# Altium footprint library PCB_Passive.PcbLib: 45 footprints (part 2 of 3)
Each footprint in its own frame and in the unit in brackets; x right, y up, seen from the top. Pads: shape width x height; smd on the part's side, far side on the other; paste and mask are expansions set on the pad; w line width, h text height; cw(c..) or ccw(c..) is an arc to the next point about the centre after c.
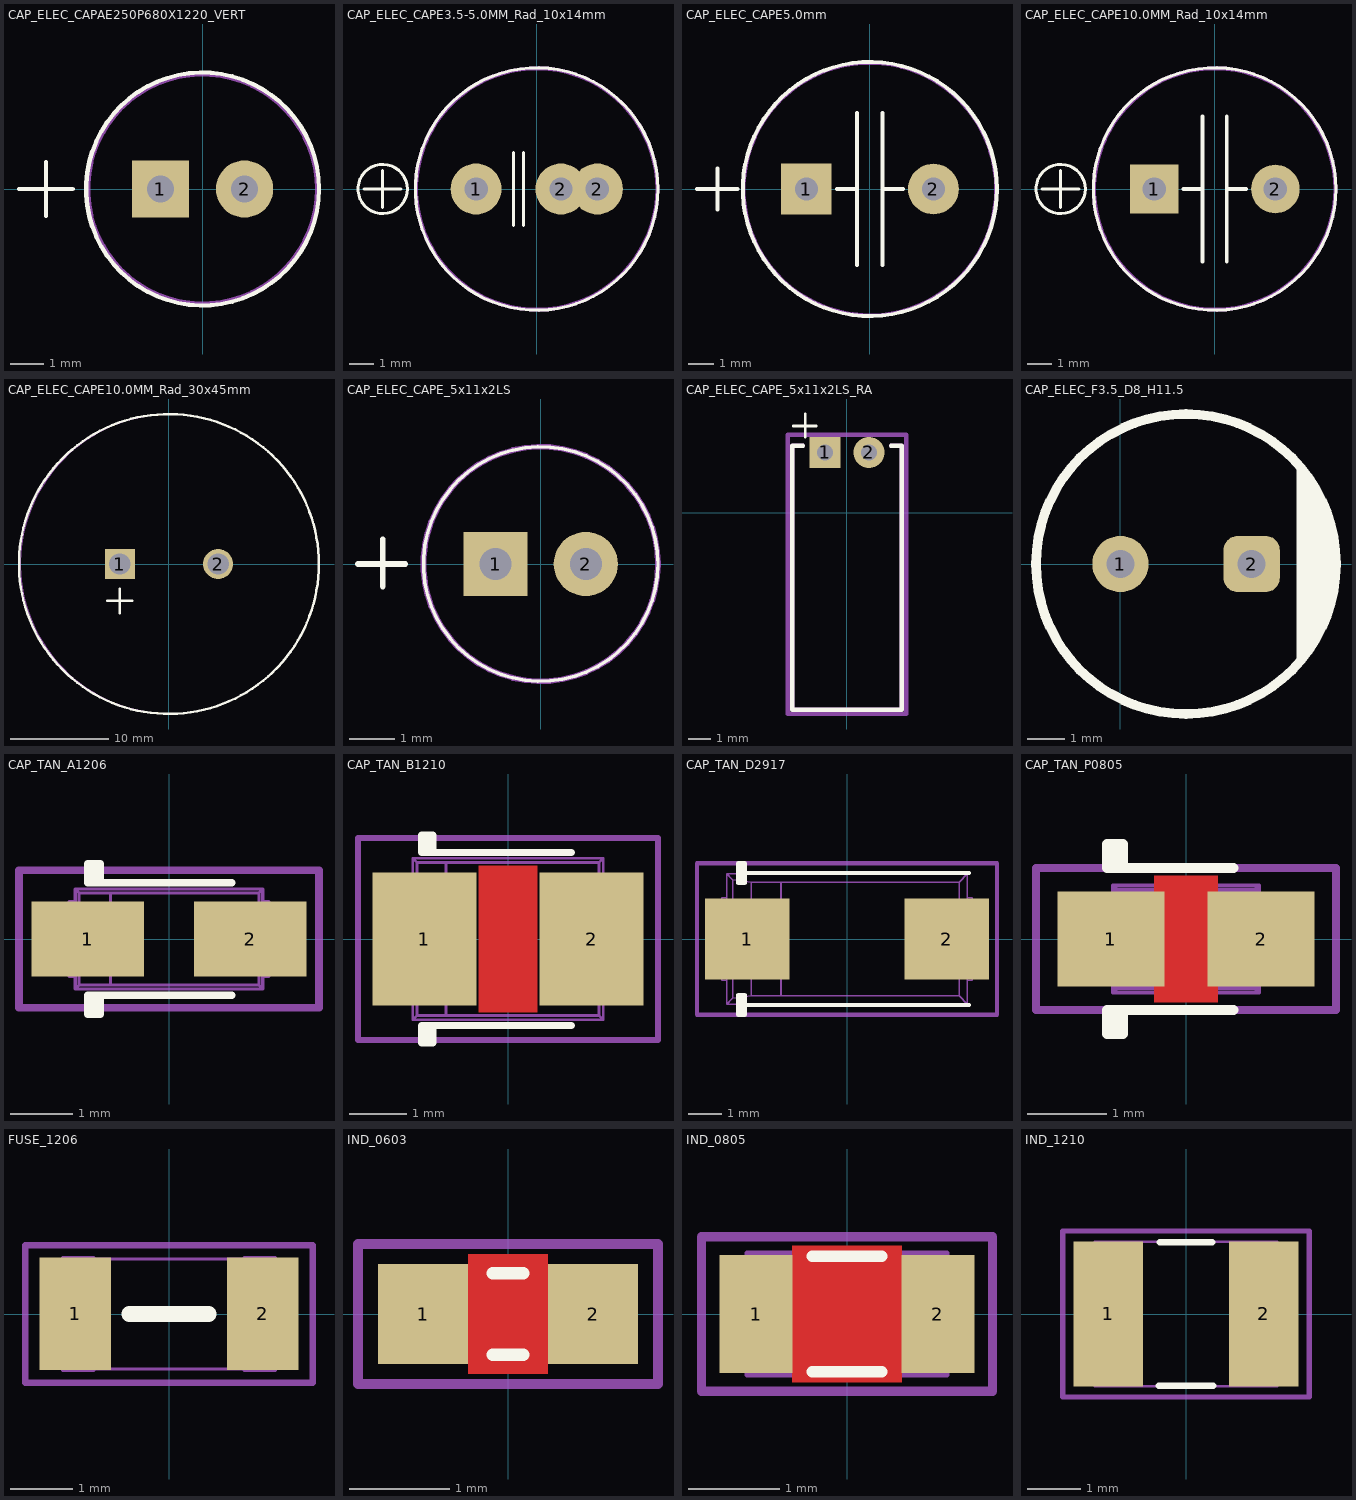
[diagram p1: the footprints below, top view; thin cyan lines are the x and y axes]

## CAP_ELEC_CAPAE250P680X1220_VERT [mm]
height 12.2
pads (2):
  rect 1.7x1.7 hole 0.8: 1(-1.25,0)
  round 1.7 hole 0.8: 2(1.25,0)
Top Overlay:
  circle w0.127: c0,0 r3.459
  lines w0.127: -5.45,0 -3.85,0 ; -4.65,-0.8 -4.65,0.8
Mechanical 13:
  circle w0.127: c0,0 r3.4
3D body: height 12.2, standoff -1.78, extent -3.372,-3.372 3.371,3.372

## CAP_ELEC_CAPE3.5-5.0MM_Rad_10x14mm [mm] "3.5 & 5.0mm Pitch Radial Capacitor 10x14mm DxH"
height 14
pads (3):
  round 2.1 hole 0.965: 1(-2.5,0) 2(1,0) 2(2.5,0)
Top Overlay:
  circle w0.127: c-6.35,0 r1.016
  circle w0.127: c0,0 r5
  lines w0.127: -7.112,0 -5.588,0 ; -6.35,-0.762 -6.35,0.762 ; -0.95,-1.5 -0.95,1.5 ; -0.55,-1.5 -0.55,1.5
Mechanical 13:
  circle w0.127: c0,0 r4.953
Mechanical 14:
  circle w0.127: c0,0 r5
3D body: height 13.99, standoff -3.51, extent -5.25,-5.237 5.206,5.237

## CAP_ELEC_CAPE5.0mm [mm]
height 20
pads (2):
  rect 2x2 hole 0.9: 1(-2.5,0)
  round 2 hole 0.9: 2(2.5,0)
Top Overlay:
  circle w0.152: c0,0 r5
  lines w0.152: -6.8,0 -5.2,0 ; -6,-0.8 -6,0.8 ; -1.3,0 -0.5,0 ; -0.5,-3 -0.5,3 ; 0.5,-3 0.5,3 ; 0.5,0 1.3,0
Mechanical 13:
  circle w0.127: c0,-0.003 r4.953
3D body: height 20, standoff -3.5, extent -4.958,-4.968 4.953,4.961

## CAP_ELEC_CAPE10.0MM_Rad_10x14mm [mm] "10mm Pitch Radial Capacitor 10x14mm DxH"
height 14
pads (2):
  rect 2x2 hole 0.965: 1(-2.5,0)
  round 2 hole 0.965: 2(2.5,0)
Top Overlay:
  circle w0.127: c0,0 r5
  circle w0.127: c-6.35,0 r1.016
  lines w0.127: -7.112,0 -5.588,0 ; -6.35,-0.762 -6.35,0.762
  lines w0.152: -1.3,0.003 -0.5,0.003 ; -0.5,-2.997 -0.5,3.003 ; 0.5,-2.997 0.5,3.003 ; 0.5,0.003 1.3,0.003
Mechanical 13:
  circle w0.127: c0,0 r4.953
Mechanical 14:
  circle w0.127: c0,0 r5
3D body: height 13.99, standoff -3.51, extent -5.25,-5.237 5.206,5.237

## CAP_ELEC_CAPE10.0MM_Rad_30x45mm [mil] "10mm Pitch Radial Capacitor"
height 1771.65
pads (2):
  rect 120x120 hole 86: 1(-196.85,0)
  round 120 hole 86: 2(196.85,0)
Top Overlay:
  circle w10: c0,0 r600.39
  lines w10: -246.06,-147.64 -147.64,-147.64 ; -196.85,-196.85 -196.85,-98.43
Mechanical 15:
  circle w5: c3.15,0 r597.8
3D body: height 1771.65, standoff -137.8, extent -585.73,-588.1 589.23,588.11

## CAP_ELEC_CAPE_5x11x2LS [mil] "Capacitor, electrolytic, radial can"
height 433.07
pads (2):
  rect 56x56 hole 28: 1(-39.37,0)
  round 56 hole 28: 2(39.37,0)
Top Overlay:
  circle w3: c0,0 r102.36
  lines w5: -159.45,0 -118.11,0 ; -137.8,-19.68 -137.8,21.65
Mechanical 13:
  circle w5: c0,0 r102.36
3D body: height 433.07, standoff -86.61, extent -98.42,-98.42 98.43,98.43

## CAP_ELEC_CAPE_5x11x2LS_RA [mil] "Capacitor, electrolytic, radial can, laid over"
height 196.85
pads (2):
  rect 56x56 hole 28: 1(-39.37,108.27)
  round 56 hole 28: 2(39.37,108.27)
Top Overlay:
  lines w5: -96.46,155.51 -55.12,155.51 ; -74.8,135.83 -74.8,177.17
  lines w7.87: -78.74,120.08 -98.43,120.08 -98.43,-352.36 0,-352.36 98.43,-352.36 98.43,120.08 78.74,120.08
Mechanical 13:
  lines w7.87: -78.74,120.08 -98.43,120.08 -98.43,-352.36 0,-352.36 98.43,-352.36 98.43,120.08 78.74,120.08
Mechanical 14:
  lines w7.87: -106.3,-360.24 106.3,-360.24 106.3,139.76 -106.3,139.76 -106.3,-360.24
3D body: height 200.79, standoff -86.61, extent -98.42,-352.24 98.43,118.12

## CAP_ELEC_F3.5_D8_H11.5 [mm] "CAP_ELEC_F3.5_D8_H11.5"
pads (2):
  round 1.5 hole 0.75: 1(0,0)
  rrect50% 1.5x1.5 hole 0.75: 2(3.5,0)
Top Overlay:
  circle w0.254: c1.75,0 r4
  region: 4.7,2.6 4.965,2.353 5.282,1.966 5.518,1.525 5.663,1.046 5.712,0.548 5.7,0.548 5.712,-0.548 5.663,-1.046 5.518,-1.525 5.282,-1.966 4.965,-2.353 4.956,-2.344 4.7,-2.6
Mechanical 13:
  circle w0.1: c1.75,0 r4
3D body: height 12.03, standoff -3.48, extent -2.273,-4.025 5.778,4.026

## CAP_TAN_A1206 [mm] "Capacitor, polarized, Molded Body, EIA 535BAAC size A; 3.20mm L X 1.60mm W X 1.80mm H"
height 1.8
pads (2):
  rect 1.8x1.2 smd: 1(-1.3,0) 2(1.3,0)
Top Overlay:
  lines w0.127: -1.2,-1.2 -1.2,-0.9 ; -1.2,0.9 -1.2,1.2 ; -1.1,-0.9 -1.1,-1.2 -1.3,-1.2 -1.3,-0.9 1,-0.9 ; -1.1,0.9 -1.1,1.2 -1.3,1.2 -1.3,0.9 1,0.9
Mechanical 13:
  lines w0.05: -1.6,-0.36 -1.499,-0.36 ; -1.6,0.36 -1.499,0.36 ; -1.499,-0.6 -1.6,-0.6 -1.6,0.6 -1.499,0.6 ; -0.937,-0.737 -0.937,0.737 ; 1.499,-0.6 1.6,-0.6 1.6,0.6 1.499,0.6 ; 1.499,-0.36 1.6,-0.36 ; 1.499,0.36 1.6,0.36 ; -1.5,-0.8 -1.437,-0.737 ; -1.5,-0.8 1.5,-0.8 ; -1.5,-0.8 -1.5,0.8 ; -1.5,0.8 -1.437,0.737 ; -1.5,0.8 1.5,0.8 ; -1.437,-0.737 1.437,-0.737 ; -1.437,-0.737 -1.437,0.737 ; -1.437,0.737 1.437,0.737 ; 1.437,-0.737 1.5,-0.8 ; 1.437,-0.737 1.437,0.737 ; 1.437,0.737 1.5,0.8 ; 1.5,-0.8 1.5,0.8
Mechanical 14:
  lines w0.127: -2.4,-1.1 -2.4,1.1 2.4,1.1 2.4,-1.1 -2.4,-1.1
3D body: height 1.8, standoff 0, extent -1.6,-0.8 1.6,0.8

## CAP_TAN_B1210 [mm] "Molded body capacitor, Body 3.5x2.8mm, 1210, IPC Nominal settings"
height 2.1
pads (2):
  rect 1.8x2.3 smd: 1(-1.45,0) 2(1.45,0)
Top Layer:
  pour cut-out: -0.508,1.27 0.508,1.27 0.508,-1.27 -0.508,-1.27
Top Overlay:
  lines w0.127: -1.4,-1.8 -1.4,-1.5 ; -1.4,1.5 -1.4,1.8 ; -1.3,-1.5 -1.3,-1.8 -1.5,-1.8 -1.5,-1.5 1.1,-1.5 ; -1.3,1.5 -1.3,1.8 -1.5,1.8 -1.5,1.5 1.1,1.5
Mechanical 13:
  lines w0.05: -1.75,-0.55 -1.65,-0.55 ; -1.75,0.55 -1.65,0.55 ; -1.65,-1.1 -1.75,-1.1 -1.75,1.1 -1.65,1.1 ; -1.077,-1.327 -1.077,1.327 ; 1.65,-1.1 1.75,-1.1 1.75,1.1 1.65,1.1 ; 1.65,-0.55 1.75,-0.55 ; 1.65,0.55 1.75,0.55 ; -1.65,-1.4 1.65,-1.4 ; -1.65,-1.4 -1.65,1.4 ; -1.65,-1.4 -1.577,-1.327 ; -1.65,1.4 1.65,1.4 ; -1.65,1.4 -1.577,1.327 ; -1.577,-1.327 1.577,-1.327 ; -1.577,-1.327 -1.577,1.327 ; -1.577,1.327 1.577,1.327 ; 1.577,-1.327 1.65,-1.4 ; 1.577,-1.327 1.577,1.327 ; 1.577,1.327 1.65,1.4 ; 1.65,-1.4 1.65,1.4
Mechanical 14:
  lines w0.1: -2.6,-1.75 2.6,-1.75 2.6,1.75 -2.6,1.75 -2.6,-1.75
3D body: height 2.1, standoff 0, extent -1.75,-1.4 1.75,1.4

## CAP_TAN_D2917 [mm] "Molded body capacitor, Body 7.3x4.3mm, 2917, IPC Nominal settings"
height 3.1
pads (2):
  rect 2.55x2.45 smd: 1(-3.025,0) 2(3.025,0)
Top Overlay:
  lines w0.127: -3.3,-2 3.7,-2 ; -3.3,2 3.7,2 ; -3.2,-2.3 -3.2,-2 -3.2,-1.7 ; -3.2,1.7 -3.2,2 -3.2,2.3 ; -3.3,-2.3 -3.1,-2.3 -3.1,-2 -3.1,-1.7 -3.3,-1.7 -3.3,-2.3 ; -3.3,1.7 -3.1,1.7 -3.1,2 -3.1,2.3 -3.3,2.3 -3.3,1.7
Mechanical 13:
  lines w0.05: -3.8,-0.5 -3.65,-0.5 ; -3.8,0.5 -3.65,0.5 ; -3.67,-0.5 -3.67,0.5 ; -3.65,-1.25 -3.8,-1.25 -3.8,1.25 -3.65,1.25 ; -2.901,-0.575 -2.901,0.575 ; 3.65,-1.25 3.8,-1.25 3.8,1.25 3.65,1.25 ; 3.65,-0.5 3.8,-0.5 ; 3.65,0.5 3.8,0.5 ; 3.67,-0.5 3.67,0.5 ; -3.65,-1.975 3.65,-1.975 ; -3.65,-1.975 -3.471,-1.796 ; -3.65,-1.975 -3.65,1.975 ; -3.65,1.975 -3.471,1.796 ; -3.65,1.975 3.65,1.975 ; -3.471,-1.796 -2.907,-1.727 ; -3.471,-1.796 -3.471,1.796 ; -3.471,1.796 -2.907,1.727 ; -2.907,-1.727 -2.001,-1.727 ; -2.907,-1.727 -2.907,-0.575 -2.001,-0.575 -2.001,-1.727 ; -2.907,1.727 -2.001,1.727 ; -2.907,1.727 -2.907,0.575 -2.001,0.575 -2.001,1.727 ; -2.001,-1.727 3.401,-1.726 ; -2.001,1.727 3.401,1.726 ; 3.401,-1.726 3.65,-1.975 ; 3.401,-1.726 3.401,1.726 ; 3.401,1.726 3.65,1.975 ; 3.65,-1.975 3.65,1.975
Mechanical 14:
  lines w0.127: -4.55,-2.3 4.55,-2.3 4.55,2.3 -4.55,2.3 -4.55,-2.3
3D body: height 3.1, standoff 0, extent -3.8,-1.975 3.8,1.975

## CAP_TAN_P0805 [mm] "Molded body capacitor, Body 2.0x1.2mm, 0805, IPC Medium Density"
height 1.5
pads (2):
  rect 1.35x1.2 smd: 1(-0.95,0) 2(0.95,0)
Top Layer:
  pour cut-out: -0.4,0.8 0.4,0.8 0.4,-0.8 -0.4,-0.8
Top Overlay:
  lines w0.127: -0.9,-1.2 -0.9,-0.9 ; -0.9,0.9 -0.9,1.2 ; -0.8,-0.9 -0.8,-1.2 -1,-1.2 -1,-0.9 0.6,-0.9 ; -0.8,0.9 -0.8,1.2 -1,1.2 -1,0.9 0.6,0.9
Mechanical 13:
  lines w0.05: -1.025,-0.25 -0.925,-0.25 ; -1.025,0.25 -0.925,0.25 ; -0.925,-0.5 -1.025,-0.5 -1.025,0.5 -0.925,0.5 ; -0.373,-0.623 -0.373,0.623 ; 0.925,-0.5 1.025,-0.5 1.025,0.5 0.925,0.5 ; 0.925,-0.25 1.025,-0.25 ; 0.925,0.25 1.025,0.25 ; -0.925,-0.675 -0.873,-0.623 ; -0.925,-0.675 -0.925,0.675 ; -0.925,-0.675 0.925,-0.675 ; -0.925,0.675 -0.873,0.623 ; -0.925,0.675 0.925,0.675 ; -0.873,-0.623 -0.873,0.623 ; -0.873,-0.623 0.873,-0.623 ; -0.873,0.623 0.873,0.623 ; 0.873,-0.623 0.873,0.623 ; 0.873,-0.623 0.925,-0.675 ; 0.873,0.623 0.925,0.675 ; 0.925,-0.675 0.925,0.675
Mechanical 14:
  lines w0.1: -1.9,-0.9 -1.9,0.9 1.9,0.9 1.9,-0.9 -1.9,-0.9
3D body: height 1.5, standoff 0, extent -1.025,-0.675 1.025,0.675

## FUSE_1206 [mm] "Chip Capacitor, Body 3.2x1.6mm, 1206, IPC Medium Density"
height 1.6
pads (2):
  rect 1.15x1.8 smd: 1(-1.5,0) 2(1.5,0)
Top Overlay:
  lines w0.254: -0.635,0 0.635,0
Mechanical 13:
  lines w0.05: -1.2,-0.88 1.2,-0.88 ; -1.2,0.88 1.2,0.88 ; -1.7,-0.9 -1.7,0.9 -1.2,0.9 -1.2,-0.9 -1.7,-0.9 ; 1.2,-0.9 1.2,0.9 1.7,0.9 1.7,-0.9 1.2,-0.9
Mechanical 14:
  lines w0.1: -2.3,-1.1 2.3,-1.1 2.3,1.1 -2.3,1.1 -2.3,-1.1
3D body: height 1.74, standoff -0.01, extent -1.7,-0.9 1.7,0.9

## IND_0603 [mm] "Chip bead, Body 1.6x0.8mm, 0603, IPC Medium Density"
height 0.8
pads (2):
  rect 0.9x1 smd: 1(-0.85,0) 2(0.85,0)
Top Layer:
  pour cut-out: -0.4,0.6 0.4,0.6 0.4,-0.6 -0.4,-0.6
Top Overlay:
  lines w0.127: -0.152,-0.406 0.152,-0.406 ; -0.152,0.406 0.152,0.406
Mechanical 13:
  lines w0.05: -0.875,-0.475 -0.475,-0.475 -0.475,0.475 -0.875,0.475 -0.875,-0.475 ; -0.475,-0.474 0.475,-0.474 -0.475,-0.474 ; -0.475,0.474 0.475,0.474 -0.475,0.474 ; 0.475,-0.475 0.475,0.475 0.875,0.475 0.875,-0.475 0.475,-0.475
Mechanical 14:
  lines w0.1: -1.5,-0.7 -1.5,0.7 1.5,0.7 1.5,-0.7 -1.5,-0.7
3D body: height 0.79, standoff -0.01, extent -0.8,-0.4 0.8,0.4

## IND_0805 [mm] "Ferrite Bead Chip, Body 2.0x1.2mm, 0805, IPC Medium Density"
height 0.9
pads (2):
  rect 0.8x1.3 smd: 1(-1,0) 2(1,0)
Top Layer:
  pour cut-out: -0.6,0.75 0.6,0.75 0.6,-0.75 -0.6,-0.75
Top Overlay:
  lines w0.127: -0.381,-0.635 0.381,-0.635 ; -0.381,0.635 0.381,0.635
Mechanical 13:
  lines w0.05: 0.6,-0.674 -0.6,-0.674 ; -0.6,-0.674 0.6,-0.674 ; -0.6,-0.675 -1.1,-0.675 -1.1,0.675 -0.6,0.675 -0.6,-0.675 ; 0.6,-0.675 1.1,-0.675 1.1,0.675 0.6,0.675 ; 0.6,-0.675 0.6,0.675 ; 0.6,0.674 -0.6,0.674 0.6,0.674
Mechanical 14:
  lines w0.1: -1.6,-0.85 -1.6,0.85 1.6,0.85 1.6,-0.85 -1.6,-0.85
3D body: height 0.9, standoff 0, extent -1,-0.625 1,0.625

## IND_1210 [mm] "Chip Inductor, 2-Leads, Body 3.2x2.5mm, IPC Medium Density"
height 2.7
pads (2):
  rect 1.3x2.7 smd: 1(-1.45,0) 2(1.45,0)
Top Overlay:
  lines w0.127: -0.508,-1.339 0.508,-1.339 ; -0.483,1.339 0.483,1.339
Mechanical 13:
  lines w0.05: -1.7,-1.35 -1.7,1.35 -1.1,1.35 -1.1,-1.35 -1.7,-1.35 ; -1.1,-1.349 1.1,-1.349 -1.1,-1.349 ; -1.1,1.349 1.1,1.349 -1.1,1.349 ; 1.1,-1.35 1.7,-1.35 1.7,1.35 1.1,1.35 1.1,-1.35
Mechanical 14:
  lines w0.1: -2.3,-1.55 2.3,-1.55 2.3,1.55 -2.3,1.55 -2.3,-1.55
3D body: height 2.7, standoff 0, extent -1.7,-1.35 1.7,1.35